# Altium schematic symbol library ACS711ELCTR-25AB-T.SchLib: 2 symbols
Pins are listed as number, name and electrical type; pins without a type are passive.

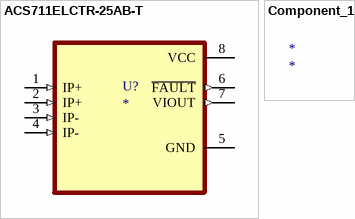
[diagram p0: symbols ACS711ELCTR-25AB-T to Component_1]

## ACS711ELCTR-25AB-T
designator U?
MF: {'manufacturer': u'Allegro MicroSystems LLC'}; MP: ACS711ELCTR-25AB-T; Price: None; Value: *; Package: None; Availability: Unavailable
footprint SOIC127P600X175-8N
pins: 1 IP+ (in), 2 IP+ (in), 3 IP- (in), 4 IP- (in), 5 GND (power), 6 ~{FAULT} (out), 7 VIOUT (out), 8 VCC (power)

## Component_1
designator *